# Altium integrated library Bosch Environmental Sensors.IntLib: 2 symbols
Pins are listed as number, name and electrical type; pins without a type are passive.

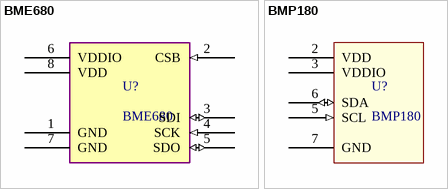
[diagram p0: symbols BME680 to BMP180]

## BME680
designator U?
Low power gas, pressure, temperature and humidity sensor; Supplier 1: Mouser; Supplier Part Number 1: 262-BME680; ComponentLink1Description: Datasheet; ComponentLink1URL: https://ae-bst.resource.bosch.com/media/_tech/media/datasheets/BST-BME680-DS001-00.pdf
footprint LGA8R800P2X2_3000X3000X930 (IPC-7351C)
pins: 1 GND (power) "Ground", 2 CSB (in) "Chip select", 3 SDI (io) "Serial data input", 4 SCK (in) "Serial clock input", 5 SDO (io) "Serial data output", 6 VDDIO (power) "Digital/Interface supply", 7 GND (power) "Ground", 8 VDD (power) "Analog supply"

## BMP180
designator U?
Digital Pressure Sensor; ComponentLink1Description: Datasheet; ComponentLink1URL: https://ae-bst.resource.bosch.com/media/_tech/media/datasheets/BST-BMP180-DS000-12.pdf
footprint BOSH_BMP180_380X360-7
pins: 1 CSB hidden "Chip select", 2 VDD (power) "Power supply", 3 VDDIO (power) "Digital power supply", 4 SDO hidden "SPI output", 5 SCL (in) "I2C serial bus clock input", 6 SDA (io) "I2C serial bus data", 7 GND (power) "Ground"